# Altium schematic symbol library DDR4_UDIMM.SchLib: 1 symbol
Pins are listed as number, name and electrical type; pins without a type are passive.

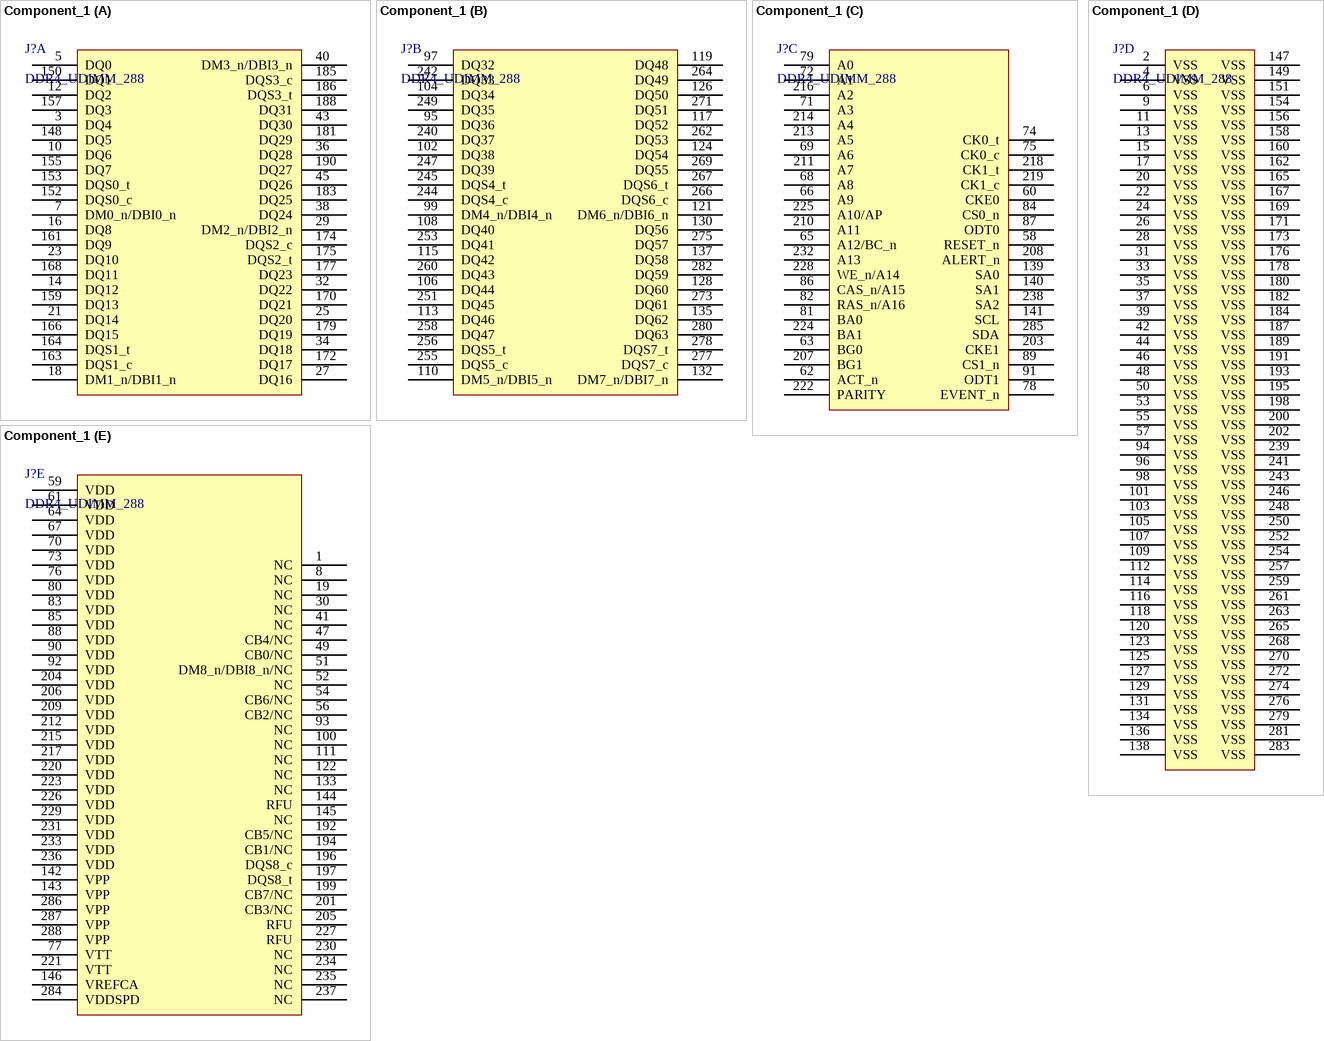
[diagram p0: symbol Component_1]

## Component_1
designator J?, comment DDR4_UDIMM_288
DDR4 288-pin UDIMM edge fingers, 0.85 mm pitch (JEDEC MO-309)
footprint DDR4_UDIMM_288_MO309
part A pins: 3 DQ4 "net DQ4", 5 DQ0 "net DQ0", 7 DM0_n/DBI0_n "net DM0", 10 DQ6 "net DQ6", 12 DQ2 "net DQ2", 14 DQ12 "net DQ12", 16 DQ8 "net DQ8", 18 DM1_n/DBI1_n "net DM1", 21 DQ14 "net DQ14", 23 DQ10 "net DQ10", 25 DQ20 "net DQ20", 27 DQ16 "net DQ16", 29 DM2_n/DBI2_n "net DM2", 32 DQ22 "net DQ22", 34 DQ18 "net DQ18", 36 DQ28 "net DQ28", 38 DQ24 "net DQ24", 40 DM3_n/DBI3_n "net DM3", 43 DQ30 "net DQ30", 45 DQ26 "net DQ26", 148 DQ5 "net DQ5", 150 DQ1 "net DQ1", 152 DQS0_c "net DQS0_C", 153 DQS0_t "net DQS0_T", 155 DQ7 "net DQ7", 157 DQ3 "net DQ3", 159 DQ13 "net DQ13", 161 DQ9 "net DQ9", 163 DQS1_c "net DQS1_C", 164 DQS1_t "net DQS1_T", 166 DQ15 "net DQ15", 168 DQ11 "net DQ11", 170 DQ21 "net DQ21", 172 DQ17 "net DQ17", 174 DQS2_c "net DQS2_C", 175 DQS2_t "net DQS2_T", 177 DQ23 "net DQ23", 179 DQ19 "net DQ19", 181 DQ29 "net DQ29", 183 DQ25 "net DQ25", 185 DQS3_c "net DQS3_C", 186 DQS3_t "net DQS3_T", 188 DQ31 "net DQ31", 190 DQ27 "net DQ27"
part B pins: 95 DQ36 "net DQ36", 97 DQ32 "net DQ32", 99 DM4_n/DBI4_n "net DM4", 102 DQ38 "net DQ38", 104 DQ34 "net DQ34", 106 DQ44 "net DQ44", 108 DQ40 "net DQ40", 110 DM5_n/DBI5_n "net DM5", 113 DQ46 "net DQ46", 115 DQ42 "net DQ42", 117 DQ52 "net DQ52", 119 DQ48 "net DQ48", 121 DM6_n/DBI6_n "net DM6", 124 DQ54 "net DQ54", 126 DQ50 "net DQ50", 128 DQ60 "net DQ60", 130 DQ56 "net DQ56", 132 DM7_n/DBI7_n "net DM7", 135 DQ62 "net DQ62", 137 DQ58 "net DQ58", 240 DQ37 "net DQ37", 242 DQ33 "net DQ33", 244 DQS4_c "net DQS4_C", 245 DQS4_t "net DQS4_T", 247 DQ39 "net DQ39", 249 DQ35 "net DQ35", 251 DQ45 "net DQ45", 253 DQ41 "net DQ41", 255 DQS5_c "net DQS5_C", 256 DQS5_t "net DQS5_T", 258 DQ47 "net DQ47", 260 DQ43 "net DQ43", 262 DQ53 "net DQ53", 264 DQ49 "net DQ49", 266 DQS6_c "net DQS6_C", 267 DQS6_t "net DQS6_T", 269 DQ55 "net DQ55", 271 DQ51 "net DQ51", 273 DQ61 "net DQ61", 275 DQ57 "net DQ57", 277 DQS7_c "net DQS7_C", 278 DQS7_t "net DQS7_T", 280 DQ63 "net DQ63", 282 DQ59 "net DQ59"
part C pins: 58 RESET_n "net RESET_N", 60 CKE0 "net CKE", 62 ACT_n "net ACT", 63 BG0 "net BG0", 65 A12/BC_n "net A12_BC", 66 A9 "net A9", 68 A8 "net A8", 69 A6 "net A6", 71 A3 "net A3", 72 A1 "net A1", 74 CK0_t "net CK0_T", 75 CK0_c "net CK0_C", 78 EVENT_n "not connected", 79 A0 "net A0", 81 BA0 "net BA0", 82 RAS_n/A16 "net A16_RAS", 84 CS0_n "net CS", 86 CAS_n/A15 "net A15_CAS", 87 ODT0 "net ODT", 89 CS1_n "not connected", 91 ODT1 "not connected", 139 SA0 "net SA0", 140 SA1 "net SA1", 141 SCL "net SCL", 203 CKE1 "not connected", 207 BG1 "net BG1", 208 ALERT_n "net ALERT_n", 210 A11 "net A11", 211 A7 "net A7", 213 A5 "net A5", 214 A4 "net A4", 216 A2 "net A2", 218 CK1_t "net CK1_T", 219 CK1_c "net CK1_C", 222 PARITY "net PAR", 224 BA1 "net BA1", 225 A10/AP "net A10_AP", 228 WE_n/A14 "net WE", 232 A13 "net A13", 238 SA2 "net SA2", 285 SDA "net SDA"
part D pins: 2 VSS "net GND", 4 VSS "net GND", 6 VSS "net GND", 9 VSS "net GND", 11 VSS "net GND", 13 VSS "net GND", 15 VSS "net GND", 17 VSS "net GND", 20 VSS "net GND", 22 VSS "net GND", 24 VSS "net GND", 26 VSS "net GND", 28 VSS "net GND", 31 VSS "net GND", 33 VSS "net GND", 35 VSS "net GND", 37 VSS "net GND", 39 VSS "net GND", 42 VSS "net GND", 44 VSS "net GND", 46 VSS "net GND", 48 VSS "net GND", 50 VSS "net GND", 53 VSS "net GND", 55 VSS "net GND", 57 VSS "net GND", 94 VSS "net GND", 96 VSS "net GND", 98 VSS "net GND", 101 VSS "net GND", 103 VSS "net GND", 105 VSS "net GND", 107 VSS "net GND", 109 VSS "net GND", 112 VSS "net GND", 114 VSS "net GND", 116 VSS "net GND", 118 VSS "net GND", 120 VSS "net GND", 123 VSS "net GND", 125 VSS "net GND", 127 VSS "net GND", 129 VSS "net GND", 131 VSS "net GND", 134 VSS "net GND", 136 VSS "net GND", 138 VSS "net GND", 147 VSS "net GND", 149 VSS "net GND", 151 VSS "net GND", 154 VSS "net GND", 156 VSS "net GND", 158 VSS "net GND", 160 VSS "net GND", 162 VSS "net GND", 165 VSS "net GND", 167 VSS "net GND", 169 VSS "net GND", 171 VSS "net GND", 173 VSS "net GND", 176 VSS "net GND", 178 VSS "net GND", 180 VSS "net GND", 182 VSS "net GND", 184 VSS "net GND", 187 VSS "net GND", 189 VSS "net GND", 191 VSS "net GND", 193 VSS "net GND", 195 VSS "net GND", 198 VSS "net GND", 200 VSS "net GND", 202 VSS "net GND", 239 VSS "net GND", 241 VSS "net GND", 243 VSS "net GND", 246 VSS "net GND", 248 VSS "net GND", 250 VSS "net GND", 252 VSS "net GND", 254 VSS "net GND", 257 VSS "net GND", 259 VSS "net GND", 261 VSS "net GND", 263 VSS "net GND", 265 VSS "net GND", 268 VSS "net GND", 270 VSS "net GND", 272 VSS "net GND", 274 VSS "net GND", 276 VSS "net GND", 279 VSS "net GND", 281 VSS "net GND", 283 VSS "net GND"
part E pins: 1 NC "not connected", 8 NC "not connected", 19 NC "not connected", 30 NC "not connected", 41 NC "not connected", 47 CB4/NC "not connected", 49 CB0/NC "not connected", 51 DM8_n/DBI8_n/NC "not connected", 52 NC "not connected", 54 CB6/NC "not connected", 56 CB2/NC "not connected", 59 VDD "net VDD", 61 VDD "net VDD", 64 VDD "net VDD", 67 VDD "net VDD", 70 VDD "net VDD", 73 VDD "net VDD", 76 VDD "net VDD", 77 VTT "net VTT", 80 VDD "net VDD", 83 VDD "net VDD", 85 VDD "net VDD", 88 VDD "net VDD", 90 VDD "net VDD", 92 VDD "net VDD", 93 NC "not connected", 100 NC "not connected", 111 NC "not connected", 122 NC "not connected", 133 NC "not connected", 142 VPP "net VPP", 143 VPP "net VPP", 144 RFU "not connected", 145 NC "not connected", 146 VREFCA "net VREFCA", 192 CB5/NC "not connected", 194 CB1/NC "not connected", 196 DQS8_c "not connected", 197 DQS8_t "not connected", 199 CB7/NC "not connected", 201 CB3/NC "not connected", 204 VDD "net VDD", 205 RFU "not connected", 206 VDD "net VDD", 209 VDD "net VDD", 212 VDD "net VDD", 215 VDD "net VDD", 217 VDD "net VDD", 220 VDD "net VDD", 221 VTT "net VTT", 223 VDD "net VDD", 226 VDD "net VDD", 227 RFU "not connected", 229 VDD "net VDD", 230 NC "not connected", 231 VDD "net VDD", 233 VDD "net VDD", 234 NC "not connected", 235 NC "not connected", 236 VDD "net VDD", 237 NC "not connected", 284 VDDSPD "net VDDSPD", 286 VPP "net VPP", 287 VPP "net VPP", 288 VPP "net VPP"